# EAGLE library part 0476420001 (library xmosxl)
USB Connectors MICRO USB B REC RA SMT MID Source: Datasheet <https://www.molex.com/pdm_docs/sd/476420001_sd.pdf>
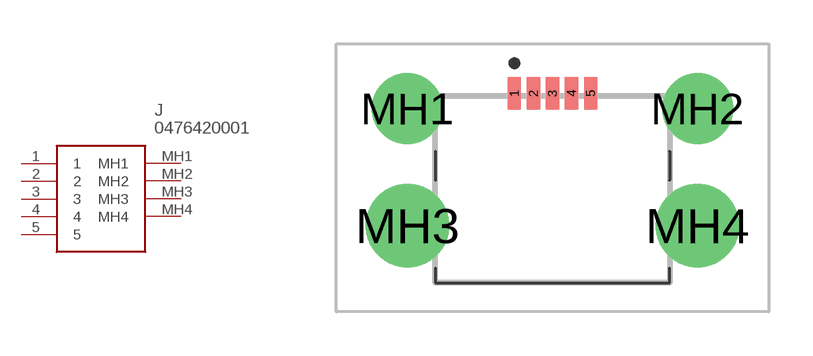
[diagram p2: symbol with the pads of 0476420001; footprint 0476420001]

Designator prefix J

## 0476420001 (ARROW_PART_NUMBER: 0476420001; ARROW_PRICE-STOCK: https://www.arrow.com/en/products/0476420001/molex; DESCRIPTION: USB Connectors MICRO USB B REC RA SMT MID; HEIGHT: 2.94mm; MANUFACTURER_NAME: Molex; MANUFACTURER_PART_NUMBER: 0476420001; MOUSER_PART_NUMBER: N/A; MOUSER_PRICE-STOCK: https://www.mouser.com/Search/Refine.aspx?Keyword=N%2FA)  [0476420001]
1  1
2  2
3  3
4  4
5  5
MH1  MH1
MH2  MH2
MH3  MH3
MH4  MH4

## Footprint 0476420001 (pad centres in mm)
0476420001-6
smd 0.45 x 1.1: 1 -1.3,3.17; 2 -0.65,3.17; 3 0,3.17; 4 0.65,3.17; 5 1.3,3.17
drill 1.615 pad 2.423: MH1 -4.95,2.65; MH2 4.95,2.65
drill 1.897 pad 2.846: MH3 -4.95,-1.35; MH4 4.95,-1.35